# Altium schematic symbol library DRV8833PWPR.SchLib: 1 symbol
Pins are listed as number, name and electrical type; pins without a type are passive.

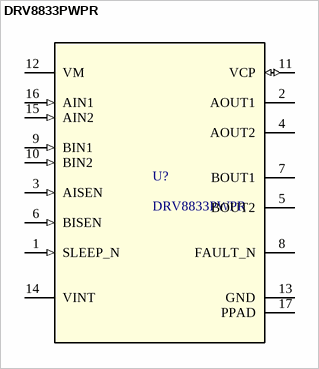
[diagram p0: symbol DRV8833PWPR]

## DRV8833PWPR
designator U?
10.8-V, 2-A dual H-bridge motor driver with current regulation 16-HTSSOP -40 to 85; Manufacturer_Name: Texas Instruments; TYPE: TYPE; RefDes: RefDes; Copyright: Copyright (C) 2025 Ultra Librarian. All rights reserved.; Manufacturer_Part_Number: DRV8833PWPR
footprint PWP0016C_N
pins: 1 SLEEP_N (in), 2 AOUT1 (hiz), 3 AISEN (in), 4 AOUT2 (hiz), 5 BOUT2 (hiz), 6 BISEN (in), 7 BOUT1 (hiz), 8 FAULT_N (oc), 9 BIN1 (in), 10 BIN2 (in), 11 VCP (io), 12 VM (power), 13 GND (power), 14 VINT, 15 AIN2 (in), 16 AIN1 (in), 17 PPAD (power)